# Altium footprint library TSSOP_50P_M.PcbLib: 24 footprints (part 2 of 2)
Each footprint in its own frame and in the unit in brackets; x right, y up, seen from the top. Pads: shape width x height; smd on the part's side, far side on the other; paste and mask are expansions set on the pad; w line width, h text height; cw(c..) or ccw(c..) is an arc to the next point about the centre after c.
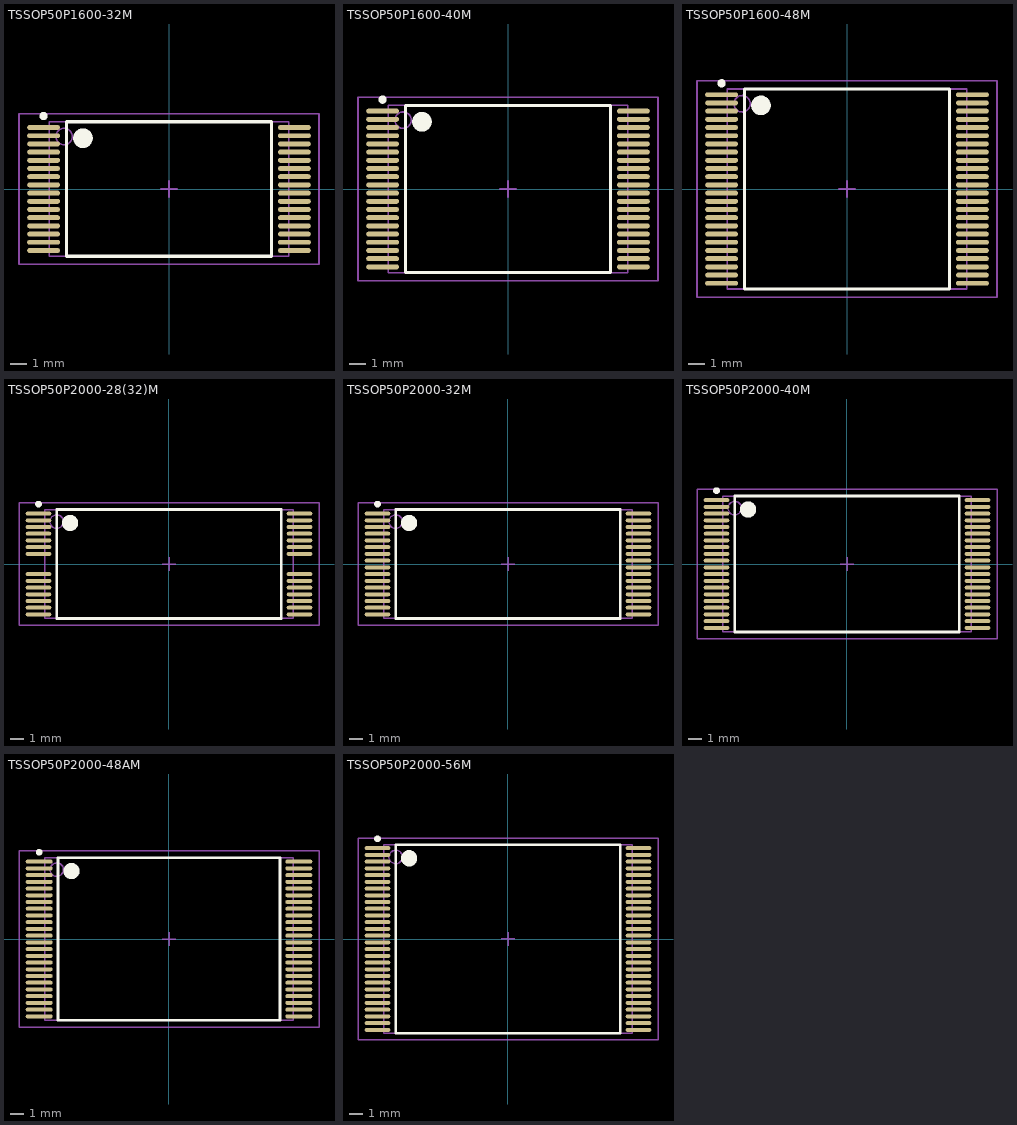
[diagram p1: the footprints below, top view; thin cyan lines are the x and y axes]

## TSSOP50P1600-32M [mm] "TSSOP, 32-Leads, Body 8x14.4mm, Pitch 0.5mm, IPC Low Density"
height 1.27
pads (32):
  oval 2x0.3 smd: 1(-7.65,3.75) 2(-7.65,3.25) 3(-7.65,2.75) 4(-7.65,2.25) 5(-7.65,1.75) 6(-7.65,1.25) 7(-7.65,0.75) 8(-7.65,0.25) 9(-7.65,-0.25) 10(-7.65,-0.75) 11(-7.65,-1.25) 12(-7.65,-1.75) 13(-7.65,-2.25) 14(-7.65,-2.75) 15(-7.65,-3.25) 16(-7.65,-3.75) 17(7.65,-3.75) 18(7.65,-3.25) 19(7.65,-2.75) 20(7.65,-2.25) 21(7.65,-1.75) 22(7.65,-1.25) 23(7.65,-0.75) 24(7.65,-0.25) 25(7.65,0.25) 26(7.65,0.75) 27(7.65,1.25) 28(7.65,1.75) 29(7.65,2.25) 30(7.65,2.75) 31(7.65,3.25) 32(7.65,3.75)
Top Overlay:
  circle w0.25: c-7.65,4.45 r0.125
  circle w0.6: c-5.25,3.1 r0.3
  lines w0.2: -6.25,-4.1 -6.25,4.1 6.25,4.1 6.25,-4.1 -6.25,-4.1
Mechanical 13:
  circle w0.1: c-6.4,3.2 r0.5
  lines w0.1: -7.3,-4.1 -7.3,4.1 7.3,4.1 7.3,-4.1 -7.3,-4.1
Mechanical 15:
  lines w0.1: -0.5,0 0.5,0 ; 0,-0.5 0,0.5 ; -9.15,-4.6 -9.15,4.6 9.15,4.6 9.15,-4.6 -9.15,-4.6
3D body: height 1.27, standoff 0, extent -7.3,-4.1 7.3,4.1

## TSSOP50P1600-40M [mm] "TSSOP, 40-Leads, Body 10x14.4mm, Pitch 0.5mm, IPC Low Density"
height 1.27
pads (40):
  oval 2x0.3 smd: 1(-7.65,4.75) 2(-7.65,4.25) 3(-7.65,3.75) 4(-7.65,3.25) 5(-7.65,2.75) 6(-7.65,2.25) 7(-7.65,1.75) 8(-7.65,1.25) 9(-7.65,0.75) 10(-7.65,0.25) 11(-7.65,-0.25) 12(-7.65,-0.75) 13(-7.65,-1.25) 14(-7.65,-1.75) 15(-7.65,-2.25) 16(-7.65,-2.75) 17(-7.65,-3.25) 18(-7.65,-3.75) 19(-7.65,-4.25) 20(-7.65,-4.75) 21(7.65,-4.75) 22(7.65,-4.25) 23(7.65,-3.75) 24(7.65,-3.25) 25(7.65,-2.75) 26(7.65,-2.25) 27(7.65,-1.75) 28(7.65,-1.25) 29(7.65,-0.75) 30(7.65,-0.25) 31(7.65,0.25) 32(7.65,0.75) 33(7.65,1.25) 34(7.65,1.75) 35(7.65,2.25) 36(7.65,2.75) 37(7.65,3.25) 38(7.65,3.75) 39(7.65,4.25) 40(7.65,4.75)
Top Overlay:
  circle w0.6: c-5.25,4.1 r0.3
  circle w0.25: c-7.65,5.45 r0.125
  lines w0.2: -6.25,-5.1 6.25,-5.1 6.25,5.1 -6.25,5.1 -6.25,-5.1
Mechanical 13:
  circle w0.1: c-6.4,4.2 r0.5
  lines w0.1: -7.3,-5.1 7.3,-5.1 7.3,5.1 -7.3,5.1 -7.3,-5.1
Mechanical 15:
  lines w0.1: -0.5,0 0.5,0 ; 0,-0.5 0,0.5 ; -9.15,-5.6 9.15,-5.6 9.15,5.6 -9.15,5.6 -9.15,-5.6
3D body: height 1.27, standoff 0, extent -7.3,-5.1 7.3,5.1

## TSSOP50P1600-48M [mm] "TSSOP, 48-Leads, Body 12x14.4mm, Pitch 0.5mm, IPC Low Density"
height 1.27
pads (48):
  oval 2x0.3 smd: 1(-7.65,5.75) 2(-7.65,5.25) 3(-7.65,4.75) 4(-7.65,4.25) 5(-7.65,3.75) 6(-7.65,3.25) 7(-7.65,2.75) 8(-7.65,2.25) 9(-7.65,1.75) 10(-7.65,1.25) 11(-7.65,0.75) 12(-7.65,0.25) 13(-7.65,-0.25) 14(-7.65,-0.75) 15(-7.65,-1.25) 16(-7.65,-1.75) 17(-7.65,-2.25) 18(-7.65,-2.75) 19(-7.65,-3.25) 20(-7.65,-3.75) 21(-7.65,-4.25) 22(-7.65,-4.75) 23(-7.65,-5.25) 24(-7.65,-5.75) 25(7.65,-5.75) 26(7.65,-5.25) 27(7.65,-4.75) 28(7.65,-4.25) 29(7.65,-3.75) 30(7.65,-3.25) 31(7.65,-2.75) 32(7.65,-2.25) 33(7.65,-1.75) 34(7.65,-1.25) 35(7.65,-0.75) 36(7.65,-0.25) 37(7.65,0.25) 38(7.65,0.75) 39(7.65,1.25) 40(7.65,1.75) 41(7.65,2.25) 42(7.65,2.75) 43(7.65,3.25) 44(7.65,3.75) 45(7.65,4.25) 46(7.65,4.75) 47(7.65,5.25) 48(7.65,5.75)
Top Overlay:
  circle w0.6: c-5.25,5.1 r0.3
  circle w0.25: c-7.65,6.45 r0.125
  lines w0.2: -6.25,-6.1 6.25,-6.1 6.25,6.1 -6.25,6.1 -6.25,-6.1
Mechanical 13:
  circle w0.1: c-6.4,5.2 r0.5
  lines w0.1: -7.3,-6.1 7.3,-6.1 7.3,6.1 -7.3,6.1 -7.3,-6.1
Mechanical 15:
  lines w0.1: -0.5,0 0.5,0 ; 0,-0.5 0,0.5 ; -9.15,-6.6 9.15,-6.6 9.15,6.6 -9.15,6.6 -9.15,-6.6
3D body: height 1.27, standoff 0, extent -7.3,-6.1 7.3,6.1

## TSSOP50P2000-28(32)M [mm] "TSSOP, 28-Leads, Body 8x18.4mm, Pitch 0.5mm, IPC Low Density"
height 1.3
pads (28):
  oval 1.9x0.3 smd: 1(-9.7,3.75) 2(-9.7,3.25) 3(-9.7,2.75) 4(-9.7,2.25) 5(-9.7,1.75) 6(-9.7,1.25) 7(-9.7,0.75) 8(-9.7,-0.75) 9(-9.7,-1.25) 10(-9.7,-1.75) 11(-9.7,-2.25) 12(-9.7,-2.75) 13(-9.7,-3.25) 14(-9.7,-3.75) 15(9.7,-3.75) 16(9.7,-3.25) 17(9.7,-2.75) 18(9.7,-2.25) 19(9.7,-1.75) 20(9.7,-1.25) 21(9.7,-0.75) 22(9.7,0.75) 23(9.7,1.25) 24(9.7,1.75) 25(9.7,2.25) 26(9.7,2.75) 27(9.7,3.25) 28(9.7,3.75)
Top Overlay:
  circle w0.25: c-9.7,4.45 r0.125
  circle w0.6: c-7.35,3.05 r0.3
  lines w0.2: -8.35,-4.05 -8.35,4.05 8.35,4.05 8.35,-4.05 -8.35,-4.05
Mechanical 13:
  circle w0.1: c-8.35,3.15 r0.5
  lines w0.1: -9.25,-4.05 -9.25,4.05 9.25,4.05 9.25,-4.05 -9.25,-4.05
Mechanical 15:
  lines w0.1: -0.5,0 0.5,0 ; 0,-0.5 0,0.5 ; -11.15,-4.55 -11.15,4.55 11.15,4.55 11.15,-4.55 -11.15,-4.55
3D body: height 1.3, standoff 0.05, extent -9.25,-4.05 9.25,4.05

## TSSOP50P2000-32M [mm] "TSSOP, 32-Leads, Body 7.6x18.4mm, Pitch 0.5mm, IPC Low Density"
height 1.05
pads (32):
  oval 1.9x0.3 smd: 1(-9.7,3.75) 2(-9.7,3.25) 3(-9.7,2.75) 4(-9.7,2.25) 5(-9.7,1.75) 6(-9.7,1.25) 7(-9.7,0.75) 8(-9.7,0.25) 9(-9.7,-0.25) 10(-9.7,-0.75) 11(-9.7,-1.25) 12(-9.7,-1.75) 13(-9.7,-2.25) 14(-9.7,-2.75) 15(-9.7,-3.25) 16(-9.7,-3.75) 17(9.7,-3.75) 18(9.7,-3.25) 19(9.7,-2.75) 20(9.7,-2.25) 21(9.7,-1.75) 22(9.7,-1.25) 23(9.7,-0.75) 24(9.7,-0.25) 25(9.7,0.25) 26(9.7,0.75) 27(9.7,1.25) 28(9.7,1.75) 29(9.7,2.25) 30(9.7,2.75) 31(9.7,3.25) 32(9.7,3.75)
Top Overlay:
  circle w0.25: c-9.7,4.45 r0.125
  circle w0.6: c-7.35,3.05 r0.3
  lines w0.2: -8.35,-4.05 -8.35,4.05 8.35,4.05 8.35,-4.05 -8.35,-4.05
Mechanical 13:
  circle w0.1: c-8.35,3.15 r0.5
  lines w0.1: -9.25,-4.05 -9.25,4.05 9.25,4.05 9.25,-4.05 -9.25,-4.05
Mechanical 15:
  lines w0.1: -0.5,0 0.5,0 ; 0,-0.5 0,0.5 ; -11.15,-4.55 -11.15,4.55 11.15,4.55 11.15,-4.55 -11.15,-4.55
3D body: height 1.05, standoff 0, extent -9.25,-4.05 9.25,4.05

## TSSOP50P2000-40M [mm] "TSSOP, 40-Leads, Body 10x18.4mm, Pitch 0.5mm, IPC Low Density"
height 1.2
pads (40):
  oval 1.9x0.3 smd: 1(-9.7,4.75) 2(-9.7,4.25) 3(-9.7,3.75) 4(-9.7,3.25) 5(-9.7,2.75) 6(-9.7,2.25) 7(-9.7,1.75) 8(-9.7,1.25) 9(-9.7,0.75) 10(-9.7,0.25) 11(-9.7,-0.25) 12(-9.7,-0.75) 13(-9.7,-1.25) 14(-9.7,-1.75) 15(-9.7,-2.25) 16(-9.7,-2.75) 17(-9.7,-3.25) 18(-9.7,-3.75) 19(-9.7,-4.25) 20(-9.7,-4.75) 21(9.7,-4.75) 22(9.7,-4.25) 23(9.7,-3.75) 24(9.7,-3.25) 25(9.7,-2.75) 26(9.7,-2.25) 27(9.7,-1.75) 28(9.7,-1.25) 29(9.7,-0.75) 30(9.7,-0.25) 31(9.7,0.25) 32(9.7,0.75) 33(9.7,1.25) 34(9.7,1.75) 35(9.7,2.25) 36(9.7,2.75) 37(9.7,3.25) 38(9.7,3.75) 39(9.7,4.25) 40(9.7,4.75)
Top Overlay:
  circle w0.6: c-7.35,4.05 r0.3
  circle w0.25: c-9.7,5.45 r0.125
  lines w0.2: -8.35,-5.05 8.35,-5.05 8.35,5.05 -8.35,5.05 -8.35,-5.05
Mechanical 13:
  circle w0.1: c-8.35,4.15 r0.5
  lines w0.1: -9.25,-5.05 9.25,-5.05 9.25,5.05 -9.25,5.05 -9.25,-5.05
Mechanical 15:
  lines w0.1: -0.5,0 0.5,0 ; 0,-0.5 0,0.5 ; -11.15,-5.55 11.15,-5.55 11.15,5.55 -11.15,5.55 -11.15,-5.55
3D body: height 1.2, standoff 0, extent -9.25,-5.05 9.25,5.05

## TSSOP50P2000-48AM [mm] "TSSOP, 48-Leads, Body 12x18.4mm, Pitch 0.5mm, IPC Low Density"
height 1.2
pads (48):
  oval 2x0.3 smd: 1(-9.65,5.75) 2(-9.65,5.25) 3(-9.65,4.75) 4(-9.65,4.25) 5(-9.65,3.75) 6(-9.65,3.25) 7(-9.65,2.75) 8(-9.65,2.25) 9(-9.65,1.75) 10(-9.65,1.25) 11(-9.65,0.75) 12(-9.65,0.25) 13(-9.65,-0.25) 14(-9.65,-0.75) 15(-9.65,-1.25) 16(-9.65,-1.75) 17(-9.65,-2.25) 18(-9.65,-2.75) 19(-9.65,-3.25) 20(-9.65,-3.75) 21(-9.65,-4.25) 22(-9.65,-4.75) 23(-9.65,-5.25) 24(-9.65,-5.75) 25(9.65,-5.75) 26(9.65,-5.25) 27(9.65,-4.75) 28(9.65,-4.25) 29(9.65,-3.75) 30(9.65,-3.25) 31(9.65,-2.75) 32(9.65,-2.25) 33(9.65,-1.75) 34(9.65,-1.25) 35(9.65,-0.75) 36(9.65,-0.25) 37(9.65,0.25) 38(9.65,0.75) 39(9.65,1.25) 40(9.65,1.75) 41(9.65,2.25) 42(9.65,2.75) 43(9.65,3.25) 44(9.65,3.75) 45(9.65,4.25) 46(9.65,4.75) 47(9.65,5.25) 48(9.65,5.75)
Top Overlay:
  circle w0.6: c-7.25,5.05 r0.3
  circle w0.25: c-9.65,6.45 r0.125
  lines w0.2: -8.25,-6.05 8.25,-6.05 8.25,6.05 -8.25,6.05 -8.25,-6.05
Mechanical 13:
  circle w0.1: c-8.35,5.15 r0.5
  lines w0.1: -9.25,-6.05 9.25,-6.05 9.25,6.05 -9.25,6.05 -9.25,-6.05
Mechanical 15:
  lines w0.1: -0.5,0 0.5,0 ; 0,-0.5 0,0.5 ; -11.15,-6.55 11.15,-6.55 11.15,6.55 -11.15,6.55 -11.15,-6.55
3D body: height 1.2, standoff 0, extent -9.25,-6.05 9.25,6.05

## TSSOP50P2000-56M [mm] "TSSOP, 56-Leads, Body 14x18.4mm, Pitch 0.5mm, IPC Low Density"
height 1.2
pads (56):
  oval 1.9x0.3 smd: 1(-9.7,6.75) 2(-9.7,6.25) 3(-9.7,5.75) 4(-9.7,5.25) 5(-9.7,4.75) 6(-9.7,4.25) 7(-9.7,3.75) 8(-9.7,3.25) 9(-9.7,2.75) 10(-9.7,2.25) 11(-9.7,1.75) 12(-9.7,1.25) 13(-9.7,0.75) 14(-9.7,0.25) 15(-9.7,-0.25) 16(-9.7,-0.75) 17(-9.7,-1.25) 18(-9.7,-1.75) 19(-9.7,-2.25) 20(-9.7,-2.75) 21(-9.7,-3.25) 22(-9.7,-3.75) 23(-9.7,-4.25) 24(-9.7,-4.75) 25(-9.7,-5.25) 26(-9.7,-5.75) 27(-9.7,-6.25) 28(-9.7,-6.75) 29(9.7,-6.75) 30(9.7,-6.25) 31(9.7,-5.75) 32(9.7,-5.25) 33(9.7,-4.75) 34(9.7,-4.25) 35(9.7,-3.75) 36(9.7,-3.25) 37(9.7,-2.75) 38(9.7,-2.25) 39(9.7,-1.75) 40(9.7,-1.25) 41(9.7,-0.75) 42(9.7,-0.25) 43(9.7,0.25) 44(9.7,0.75) 45(9.7,1.25) 46(9.7,1.75) 47(9.7,2.25) 48(9.7,2.75) 49(9.7,3.25) 50(9.7,3.75) 51(9.7,4.25) 52(9.7,4.75) 53(9.7,5.25) 54(9.7,5.75) 55(9.7,6.25) 56(9.7,6.75)
Top Overlay:
  circle w0.6: c-7.35,6 r0.3
  circle w0.25: c-9.7,7.45 r0.125
  lines w0.2: -8.35,-7 8.35,-7 8.35,7 -8.35,7 -8.35,-7
Mechanical 13:
  circle w0.1: c-8.35,6.1 r0.5
  lines w0.1: -9.25,-7 9.25,-7 9.25,7 -9.25,7 -9.25,-7
Mechanical 15:
  lines w0.1: -0.5,0 0.5,0 ; 0,-0.5 0,0.5 ; -11.15,-7.5 11.15,-7.5 11.15,7.5 -11.15,7.5 -11.15,-7.5
3D body: height 1.2, standoff 0, extent -9.25,-7 9.25,7